# Altium footprint library SOIC8.PcbLib: 2 footprints
Each footprint in its own frame and in the unit in brackets; x right, y up, seen from the top. Pads: shape width x height; smd on the part's side, far side on the other; paste and mask are expansions set on the pad; w line width, h text height; cw(c..) or ccw(c..) is an arc to the next point about the centre after c.
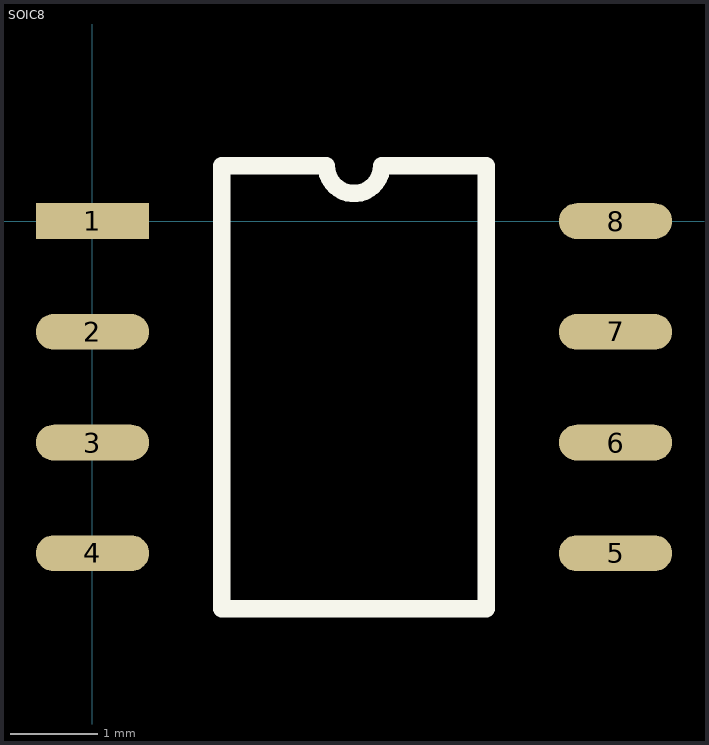
[diagram p0: the footprints below, top view; thin cyan lines are the x and y axes]

## AD620 [mm] "仪用放大器"

## SOIC8 [mm]
pads (8):
  rect 1.3x0.41 smd: 1(0,0)
  oval 1.3x0.41 smd: 2(0,-1.27) 3(0,-2.54) 4(0,-3.81) 5(6,-3.81) 6(6,-2.54) 7(6,-1.27) 8(6,0)
Top Overlay:
  lines w0.2: 1.485,-4.445 1.485,0.635 2.682,0.635 ccw(c3,0.635) 3.317,0.635 4.515,0.635 4.515,-4.445 1.485,-4.445